# EAGLE library part LEVEL (library pixel)
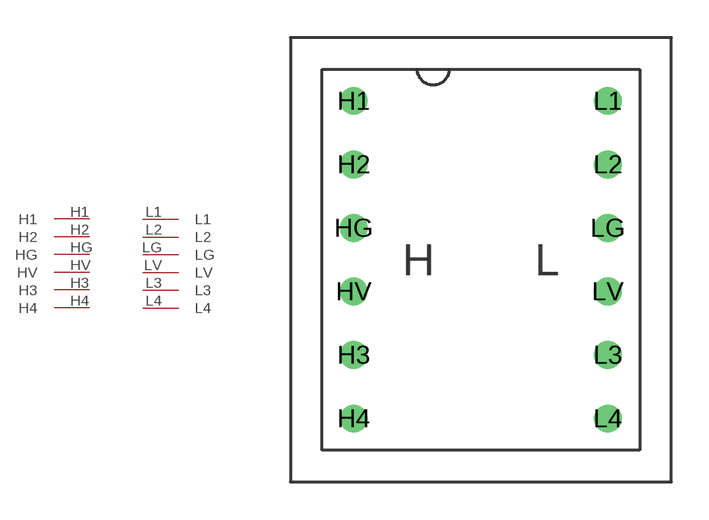
[diagram p14: symbol with the pads of LEVEL; footprint LEVEL]

Designator prefix -

## LEVEL  [LEVEL]
H1  H1
H2  H2
H3  H3
H4  H4
HG  HG
HV  HV
L1  L1
L2  L2
L3  L3
L4  L4
LG  LG
LV  LV

## Footprint LEVEL (pad centres in mm)
drill 0.6: H1 -5.08,6.35; H2 -5.08,3.81; H3 -5.08,-3.81; H4 -5.08,-6.35; HG -5.08,1.27; HV -5.08,-1.27; L1 5.08,6.35; L2 5.08,3.81; L3 5.08,-3.81; L4 5.08,-6.35; LG 5.08,1.27; LV 5.08,-1.27